# EAGLE library part MB95F334KPMC-G-SNE2 (library Fujitsu_By_element14_Batch_1)
8-bit Microcontrollers
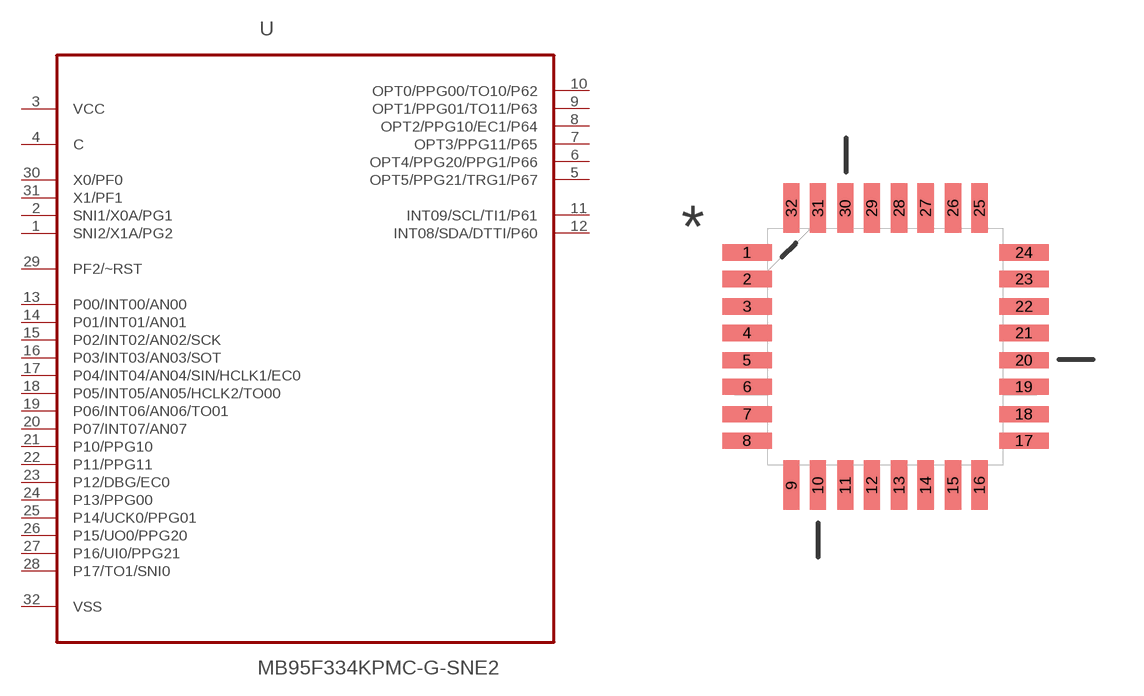
[diagram p5: symbol with the pads of QFP80P900X900X160-32N; footprint QFP80P900X900X160-32N]

Designator prefix U

## MB95F334KPMC-G-SNE2 (MPN: MB95F334KPMC-G-SNE2; OC_FARNELL: 1831958; OC_NEWARK: 93R5184; PACKAGE: LQFP-32; SUPPLIER: FUJITSU)  [QFP80P900X900X160-32N]
1  SNI2/X1A/PG2  in
2  SNI1/X0A/PG1  in
3  VCC  pwr
4  C  in
5  OPT5/PPG21/TRG1/P67  out
6  OPT4/PPG20/PPG1/P66  out
7  OPT3/PPG11/P65  out
8  OPT2/PPG10/EC1/P64  out
9  OPT1/PPG01/TO11/P63  out
10  OPT0/PPG00/TO10/P62  out
11  INT09/SCL/TI1/P61  in
12  INT08/SDA/DTTI/P60  in
13  P00/INT00/AN00
14  P01/INT01/AN01
15  P02/INT02/AN02/SCK
16  P03/INT03/AN03/SOT
17  P04/INT04/AN04/SIN/HCLK1/EC0
18  P05/INT05/AN05/HCLK2/TO00
19  P06/INT06/AN06/TO01
20  P07/INT07/AN07
21  P10/PPG10
22  P11/PPG11
23  P12/DBG/EC0
24  P13/PPG00
25  P14/UCK0/PPG01
26  P15/UO0/PPG20
27  P16/UI0/PPG21
28  P17/TO1/SNI0
29  PF2/~RST
30  X0/PF0
31  X1/PF1
32  VSS  pas

## Footprint QFP80P900X900X160-32N (pad centres in mm)
smd 1.473 x 0.483: 1 -4.115,2.794; 2 -4.115,2.007; 3 -4.115,1.194; 4 -4.115,0.406; 5 -4.115,-0.406; 6 -4.115,-1.194; 7 -4.115,-2.007; 8 -4.115,-2.794; 17 4.115,-2.794; 18 4.115,-2.007; 19 4.115,-1.194; 20 4.115,-0.406; 21 4.115,0.406; 22 4.115,1.194; 23 4.115,2.007; 24 4.115,2.794
smd 0.483 x 1.473: 9 -2.794,-4.115; 10 -2.007,-4.115; 11 -1.194,-4.115; 12 -0.406,-4.115; 13 0.406,-4.115; 14 1.194,-4.115; 15 2.007,-4.115; 16 2.794,-4.115; 25 2.794,4.115; 26 2.007,4.115; 27 1.194,4.115; 28 0.406,4.115; 29 -0.406,4.115; 30 -1.194,4.115; 31 -2.007,4.115; 32 -2.794,4.115